# EAGLE library part JM32 (library JM32_p)
Esta libreria contiene el microcontrolador MC9S08JM32 de la marca freescale en encapsulado QFP 64 , el cual es un microcontrolador de 8 bits con USB, SPI, I2C, RTC, ADC de 12 Bits, entre otras caracteristicas. Created by Germán Godínez Cardoza ger_1509@hotmail.com
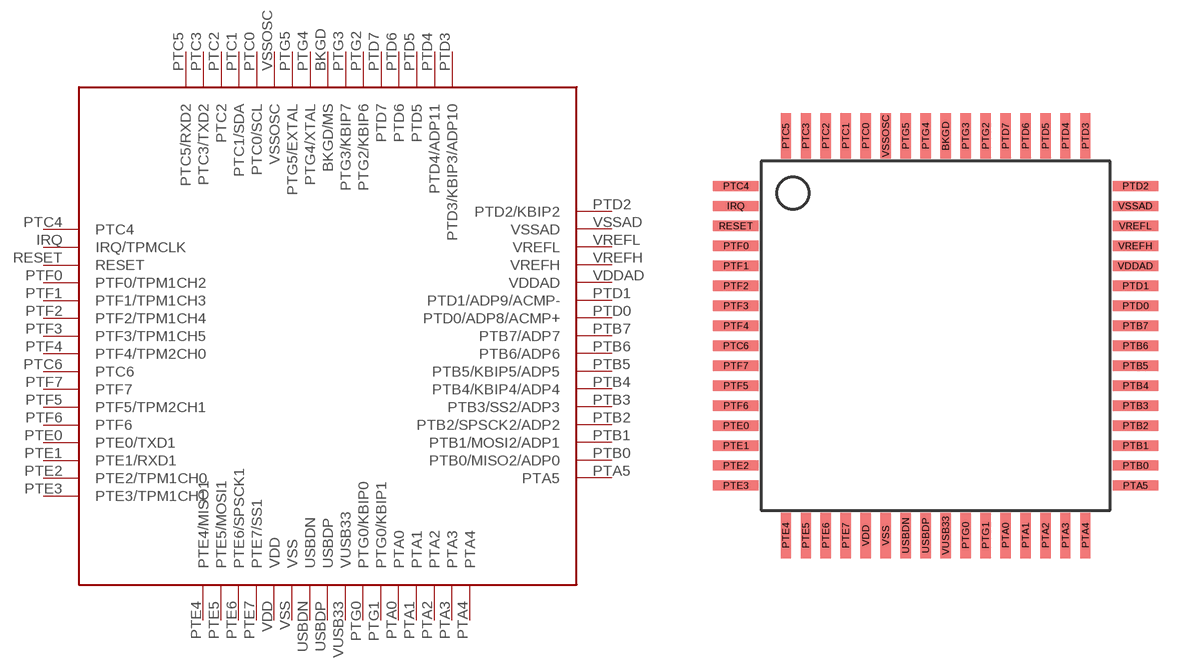
[diagram p0: symbol with the pads of JM32_QFP; footprint JM32_QFP]

Designator prefix -

## JM32, JM32FREESCALE, JM32SEMICONDUCTOR  [JM32_QFP]
BKGD  BKGD/MS
IRQ  IRQ/TPMCLK
PTA0  PTA0
PTA1  PTA1
PTA2  PTA2
PTA3  PTA3
PTA4  PTA4
PTA5  PTA5
PTB0  PTB0/MISO2/ADP0
PTB1  PTB1/MOSI2/ADP1
PTB2  PTB2/SPSCK2/ADP2
PTB3  PTB3/SS2/ADP3
PTB4  PTB4/KBIP4/ADP4
PTB5  PTB5/KBIP5/ADP5
PTB6  PTB6/ADP6
PTB7  PTB7/ADP7
PTC0  PTC0/SCL
PTC1  PTC1/SDA
PTC2  PTC2
PTC3  PTC3/TXD2
PTC4  PTC4
PTC5  PTC5/RXD2
PTC6  PTC6
PTD0  PTD0/ADP8/ACMP+
PTD1  PTD1/ADP9/ACMP-
PTD2  PTD2/KBIP2
PTD3  PTD3/KBIP3/ADP10
PTD4  PTD4/ADP11
PTD5  PTD5
PTD6  PTD6
PTD7  PTD7
PTE0  PTE0/TXD1
PTE1  PTE1/RXD1
PTE2  PTE2/TPM1CH0
PTE3  PTE3/TPM1CH1
PTE4  PTE4/MISO1
PTE5  PTE5/MOSI1
PTE6  PTE6/SPSCK1
PTE7  PTE7/SS1
PTF0  PTF0/TPM1CH2
PTF1  PTF1/TPM1CH3
PTF2  PTF2/TPM1CH4
PTF3  PTF3/TPM1CH5
PTF4  PTF4/TPM2CH0
PTF5  PTF5/TPM2CH1
PTF6  PTF6
PTF7  PTF7
PTG0  PTG0/KBIP0
PTG1  PTG0/KBIP1
PTG2  PTG2/KBIP6
PTG3  PTG3/KBIP7
PTG4  PTG4/XTAL
PTG5  PTG5/EXTAL
RESET  RESET
USBDN  USBDN
USBDP  USBDP
VDD  VDD
VDDAD  VDDAD
VREFH  VREFH
VREFL  VREFL
VSS  VSS
VSSAD  VSSAD
VSSOSC  VSSOSC
VUSB33  VUSB33

## Footprint JM32_QFP (pad centres in mm)
64-pin QFP
smd 0.406 x 1.813: BKGD 0.4,8; PTA0 2.8,-8; PTA1 3.6,-8; PTA2 4.4,-8; PTA3 5.2,-8; PTA4 6,-8; PTC0 -2.8,8; PTC1 -3.6,8; PTC2 -4.4,8; PTC3 -5.2,8; PTC5 -6,8; PTD3 6,8; PTD4 5.2,8; PTD5 4.4,8; PTD6 3.6,8; PTD7 2.8,8; PTE4 -6,-8; PTE5 -5.2,-8; PTE6 -4.4,-8; PTE7 -3.6,-8; PTG0 1.2,-8; PTG1 2,-8; PTG2 2,8; PTG3 1.2,8; PTG4 -0.4,8; PTG5 -1.2,8; USBDN -1.2,-8; USBDP -0.4,-8; VDD -2.8,-8; VSS -2,-8; VSSOSC -2,8; VUSB33 0.4,-8
smd 1.813 x 0.406: IRQ -8,5.2; PTA5 8,-6; PTB0 8,-5.2; PTB1 8,-4.4; PTB2 8,-3.6; PTB3 8,-2.8; PTB4 8,-2; PTB5 8,-1.2; PTB6 8,-0.4; PTB7 8,0.4; PTC4 -8,6; PTC6 -8,-0.4; PTD0 8,1.2; PTD1 8,2; PTD2 8,6; PTE0 -8,-3.6; PTE1 -8,-4.4; PTE2 -8,-5.2; PTE3 -8,-6; PTF0 -8,3.6; PTF1 -8,2.8; PTF2 -8,2; PTF3 -8,1.2; PTF4 -8,0.4; PTF5 -8,-2; PTF6 -8,-2.8; PTF7 -8,-1.2; RESET -8,4.4; VDDAD 8,2.8; VREFH 8,3.6; VREFL 8,4.4; VSSAD 8,5.2